# Altium integrated library xxxxxx001_RTC.IntLib: 24 symbols
Pins are listed as number, name and electrical type; pins without a type are passive.

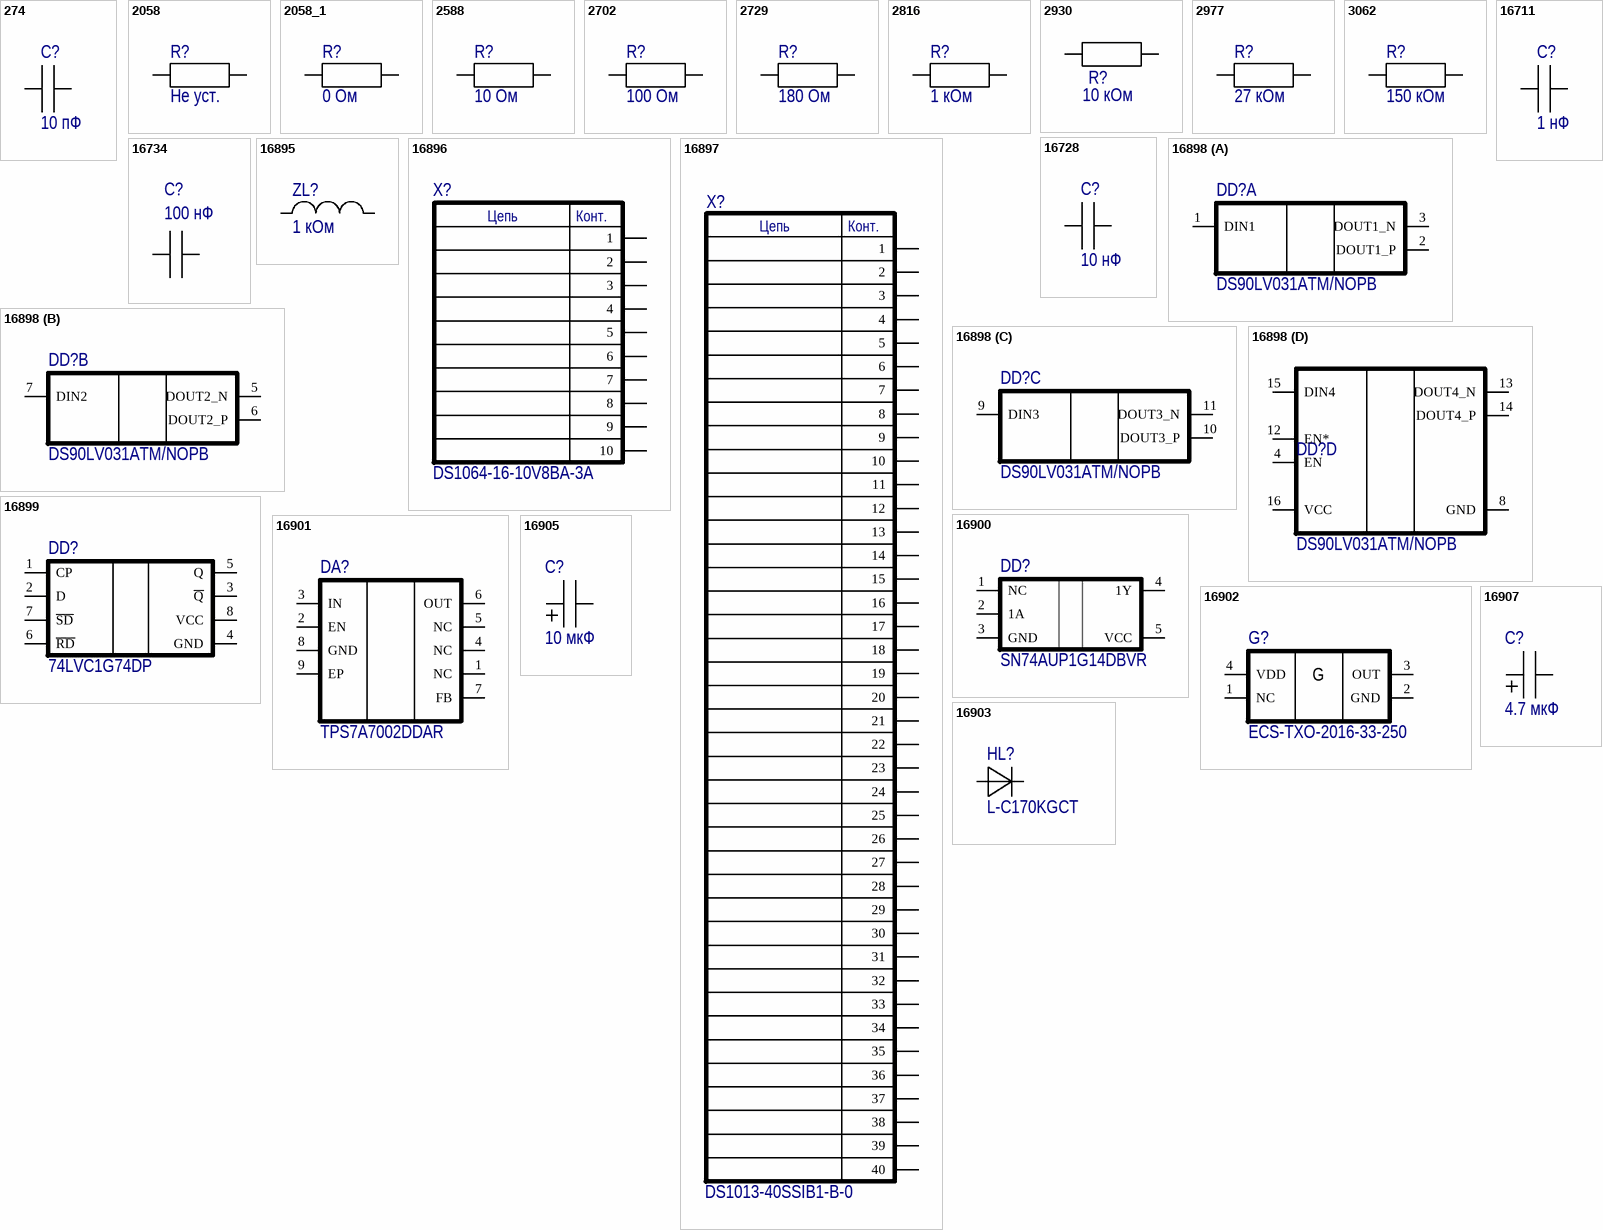
[diagram p0: symbols 274 to 16907]

## 274
designator C?, comment 10 пФ
Multilayer Ceramic Chip Capacitor; Manufacturer: Yageo; Part Number: CC0603GPNP09BN100; Number: 274; Type: Конденсатор; Ceramic Type: NP0; Voltage: 50 В; Tolerance: ±2%; ValueBOM: Multilayer Ceramic Chip Capacitor, 0603, NP0, 50V, ±2%, 10p; Package: 0603; Series: CC0603; ValueSCH: 10 пФ; HelpURL: http://www.yageo.com/e; ComponentLink1Description: Datasheet; ComponentLink1URL: ftp://51.15.50.217/yageo/capasitors/CC_series_(NP0).pdf#; Modify Date: 25.03.2009; Note: *
footprint CAPC160X080X080N
pins: 1, 2

## 2058
designator R?, comment Не уст.
General Purpose Chip Resistor; Manufacturer: Yageo; Part Number: RC0603JR-130R; Number: 2058; Power: 100 мВт; Tolerance: ±5%; ValueSCH: 0 Ом; ValueBOM: General Purpose Chip Resistor, 0603, ±5%, 0R; Type: Резистор; Package: 0603; Series: RC0603; HelpURL: http://www.yageo.com/e; ComponentLink1Description: Datasheet; ComponentLink1URL: ftp://51.15.50.217/yageo/resistors/RC0603_series.pdf#; Modify Date: 04.01.2009; Note: Не уст.
footprint RESC160X080X045N
pins: 1, 2

## 2058_1
designator R?, comment 0 Ом
General Purpose Chip Resistor; Manufacturer: Yageo; Part Number: RC0603JR-130R; Number: 2058; Power: 100 мВт; Tolerance: ±5%; ValueBOM: General Purpose Chip Resistor, 0603, ±5%, 0R; Type: Резистор; Package: 0603; Series: RC0603; ValueSCH: 0 Ом; HelpURL: http://www.yageo.com/e; ComponentLink1Description: Datasheet; ComponentLink1URL: ftp://51.15.50.217/yageo/resistors/RC0603_series.pdf#; Modify Date: 04.01.2009; Note: *
footprint RESC160X080X045N
pins: 1, 2

## 2588
designator R?, comment 10 Ом
General Purpose Chip Resistor; Manufacturer: Yageo; Part Number: RC0603FR-1310R; Number: 2588; Power: 100 мВт; Tolerance: ±1%; ValueBOM: General Purpose Chip Resistor, 0603, ±1%, 10R; Type: Резистор; Package: 0603; Series: RC0603; ValueSCH: 10 Ом; HelpURL: http://www.yageo.com/e; ComponentLink1Description: Datasheet; ComponentLink1URL: ftp://51.15.50.217/yageo/resistors/RC0603_series.pdf#; Modify Date: 04.01.2009; Note: *
footprint RESC160X080X045N
pins: 1, 2

## 2702
designator R?, comment 100 Ом
General Purpose Chip Resistor; Manufacturer: Yageo; Part Number: RC0603FR-13100R; Number: 2702; Power: 100 мВт; Tolerance: ±1%; ValueBOM: General Purpose Chip Resistor, 0603, ±1%, 100R; Type: Резистор; Package: 0603; Series: RC0603; ValueSCH: 100 Ом; HelpURL: http://www.yageo.com/e; ComponentLink1Description: Datasheet; ComponentLink1URL: ftp://51.15.50.217/yageo/resistors/RC0603_series.pdf#; Modify Date: 04.01.2009; Note: *
footprint RESC160X080X045N
pins: 1, 2

## 2729
designator R?, comment 180 Ом
General Purpose Chip Resistor; Manufacturer: Yageo; Part Number: RC0603FR-13180R; Number: 2729; Power: 100 мВт; Tolerance: ±1%; ValueBOM: General Purpose Chip Resistor, 0603, ±1%, 180R; Type: Резистор; Package: 0603; Series: RC0603; ValueSCH: 180 Ом; HelpURL: http://www.yageo.com/e; ComponentLink1Description: Datasheet; ComponentLink1URL: ftp://51.15.50.217/yageo/resistors/RC0603_series.pdf#; Modify Date: 04.01.2009; Note: *
footprint RESC160X080X045N
pins: 1, 2

## 2816
designator R?, comment 1 кОм
General Purpose Chip Resistor; Manufacturer: Yageo; Part Number: RC0603FR-131K; Number: 2816; Power: 100 мВт; Tolerance: ±1%; ValueBOM: General Purpose Chip Resistor, 0603, ±1%, 1K; Type: Резистор; Package: 0603; Series: RC0603; ValueSCH: 1 кОм; HelpURL: http://www.yageo.com/e; ComponentLink1Description: Datasheet; ComponentLink1URL: ftp://51.15.50.217/yageo/resistors/RC0603_series.pdf#; Modify Date: 04.01.2009; Note: *
footprint RESC160X080X045N
pins: 1, 2

## 2930
designator R?, comment 10 кОм
General Purpose Chip Resistor; Manufacturer: Yageo; Part Number: RC0603FR-1310K; Number: 2930; Power: 100 мВт; Tolerance: ±1%; ValueBOM: General Purpose Chip Resistor, 0603, ±1%, 10K; Type: Резистор; Package: 0603; Series: RC0603; ValueSCH: 10 кОм; HelpURL: http://www.yageo.com/e; ComponentLink1Description: Datasheet; ComponentLink1URL: ftp://51.15.50.217/yageo/resistors/RC0603_series.pdf#; Modify Date: 04.01.2009; Note: *
footprint RESC160X080X045N
pins: 1, 2

## 2977
designator R?, comment 27 кОм
General Purpose Chip Resistor; Manufacturer: Yageo; Part Number: RC0603FR-1327K; Number: 2977; Power: 100 мВт; Tolerance: ±1%; ValueBOM: General Purpose Chip Resistor, 0603, ±1%, 27K; Type: Резистор; Package: 0603; Series: RC0603; ValueSCH: 27 кОм; HelpURL: http://www.yageo.com/e; ComponentLink1Description: Datasheet; ComponentLink1URL: ftp://51.15.50.217/yageo/resistors/RC0603_series.pdf#; Modify Date: 04.01.2009; Note: *
footprint RESC160X080X045N
pins: 1, 2

## 3062
designator R?, comment 150 кОм
General Purpose Chip Resistor; Manufacturer: Yageo; Part Number: RC0603FR-13150K; Number: 3062; Power: 100 мВт; Tolerance: ±1%; ValueBOM: General Purpose Chip Resistor, 0603, ±1%, 150K; Type: Резистор; Package: 0603; Series: RC0603; ValueSCH: 150 кОм; HelpURL: http://www.yageo.com/e; ComponentLink1Description: Datasheet; ComponentLink1URL: ftp://51.15.50.217/yageo/resistors/RC0603_series.pdf#; Modify Date: 04.01.2009; Note: *
footprint RESC160X080X045N
pins: 1, 2

## 16711
designator C?, comment 1 нФ
Chip Monolithic Ceramic Capacitor; Manufacturer: Murata; Part Number: GRM188R71H102KA01D; Number: 16711; Type: Конденсатор; Ceramic Type: X7R; Voltage: 50 В; Tolerance: ±10%; ValueBOM: Chip Monolithic Ceramic Capacitor, 0603, X7R, 50V, ±10%, 1n; Package: 0603; Series: GRM188; ValueSCH: 1 нФ; ComponentLink1Description: Datasheet; ComponentLink1URL: ftp://51.15.50.217/murata/capacitors/chip_monolithic_ceramic_cap.pdf; Note: *
footprint CAPC160X080X080N
pins: 1, 2

## 16728
designator C?, comment 10 нФ
Chip Monolithic Ceramic Capacitor; Manufacturer: Murata; Part Number: GRM188R71E103KA01D; Number: 16728; Type: Конденсатор; Ceramic Type: X7R; Voltage: 25 В; Tolerance: ±10%; ValueBOM: Chip Monolithic Ceramic Capacitor, 0603, X7R, 25V, ±10%, 10n; Package: 0603; Series: GRM188; ValueSCH: 10 нФ; ComponentLink1Description: Datasheet; ComponentLink1URL: ftp://51.15.50.217/murata/capacitors/chip_monolithic_ceramic_cap.pdf; Note: *
footprint CAPC160X080X080N
pins: 1, 2

## 16734
designator C?, comment 100 нФ
Chip Monolithic Ceramic Capacitor; Manufacturer: Murata; Part Number: GRM188R71E104KA01D; Number: 16734; Type: Конденсатор; Ceramic Type: X7R; Voltage: 25 В; Tolerance: ±10%; ValueBOM: Chip Monolithic Ceramic Capacitor, 0603, X7R, 25V, ±10%, 100n; Package: 0603; Series: GRM188; ValueSCH: 100 нФ; ComponentLink1Description: Datasheet; ComponentLink1URL: ftp://51.15.50.217/murata/capacitors/chip_monolithic_ceramic_cap.pdf; Note: *
footprint CAPC160X080X080N
pins: 1, 2

## 16895
designator ZL?, comment 1 кОм
Chip Ferrite Bead; Manufacturer: Murata; Part Number: BLM15AG102SN1D; Number: 16895; Current: 300 мА; Tolerance: ±25%; ValueBOM: Chip Ferrite Bead, 0402, 300мА, ±25%, 0.65 Ом @ 100 MHz; Type: Индуктивность; Package: 0402; Series: BLM15AG; ValueSCH: 1 кОм; HelpURL: http://www.murata.com/; Modify Date: 20.06.2023; Note: *
footprint INDC100X050X050N
pins: 1, 2

## 16896
designator X?, comment DS1064-16-10V8BA-3A
1.27mm Box Header V/T Type H=7.1mm, 10 pin; Manufacturer: Connfly; Number: 16896; Type: Разъем; Series: DS1023-40; Part Number: DS1064-16-10V8BA-3A; ValueSCH: DS1064-16-10V8BA-3A; ValueBOM: 1.27mm Box Header V/T Type H=7.1mm, 10 pin; Modify Date: 21.06.2023; Note: *
footprint BHTH127x254_2X5
pins: 1, 2, 3, 4, 5, 6, 7, 8, 9, 10
text: Цепь; Конт.

## 16897
designator X?, comment DS1013-40SSIB1-B-0
2.54mm Box Header, Two Rows, 40 pins; Manufacturer: Connfly; Number: 16897; ValueBOM: 2.54mm Box Header, Dual Rows, 40 pins; Type: Разъем; Series: DS1013; Part Number: DS1013-40SSIB1-B-0; ValueSCH: DS1013-40SSIB1-B-0; Modify Date: 21.06.2023; Note: *
footprint BHTH254_2X20
pins: 1, 2, 3, 4, 5, 6, 7, 8, 9, 10, 11, 12, 13, 14, 15, 16, 17, 18, 19, 20, 21, 22, 23, 24, 25, 26, 27, 28, 29, 30, 31, 32, 33, 34, 35, 36, 37, 38, 39, 40
text: Цепь; Конт.

## 16898
designator DD?, comment DS90LV031ATM/NOPB
3-V LVDS Quad CMOS Differential Line Driver; Manufacturer: Texas Instruments; Number: 16898; Type: Микросхема цифровая; Part Number: DS90LV031ATM/NOPB; ValueSCH: DS90LV031ATM/NOPB; ValueBOM: 3-V LVDS Quad CMOS Differential Line Driver; Modify Date: 21.06.2023; Note: *
footprint SOIC127P600X175-16N
part A pins: 1 DIN1, 2 DOUT1_P, 3 DOUT1_N
part B pins: 5 DOUT2_N, 6 DOUT2_P, 7 DIN2
part C pins: 9 DIN3, 10 DOUT3_P, 11 DOUT3_N
part D pins: 4 EN, 8 GND, 12 EN*, 13 DOUT4_N, 14 DOUT4_P, 15 DIN4, 16 VCC

## 16899
designator DD?, comment 74LVC1G74DP
Single D-type flip-flop with set and reset; Manufacturer: Nexperia; Number: 16899; Type: Микросхема цифровая; Part Number: 74LVC1G74DP; ValueSCH: 74LVC1G74DP; ValueBOM: Single D-type flip-flop with set and reset; Modify Date: 21.06.2023; Mount: 1; Package: 135; Note: *
footprint TSOP65P400X110-8N
pins: 1 CP, 2 D, 3 ~{Q}, 4 GND, 5 Q, 6 ~{RD}, 7 ~{SD}, 8 VCC

## 16900
designator DD?, comment SN74AUP1G14DBVR
Low-Power Single Schmitt-Trigger Inverter; Manufacturer: Texas Instruments; Number: 16900; Type: Микросхема цифровая; Part Number: SN74AUP1G14DBVR; ValueSCH: SN74AUP1G14DBVR; ValueBOM: Low-Power Single Schmitt-Trigger Inverter; Modify Date: 21.06.2023; Mount: 1; Package: 101; Note: *
footprint TI_DBV0005A_SOT23_5 (SOT23, 5-Leads, Body 3.05x1.75mm, Pitch 0.95mm, IPC Low Density)
pins: 1 NC, 2 1A, 3 GND, 4 1Y, 5 VCC

## 16901
designator DA?, comment TPS7A7002DDAR
Very Low Input, Very Low Dropout 3-A Regulator With Enable; Manufacturer: Texas Instruments; Number: 16901; Type: Микросхема аналоговая; Part Number: TPS7A7002DDAR; ValueSCH: TPS7A7002DDAR; ValueBOM: Very Low Input, Very Low Dropout 3-A Regulator With Enable; Modify Date: 21.06.2023; Note: *
footprint SOIC127P600X170_HS-9N
pins: 1 NC, 2 EN, 3 IN, 4 NC, 5 NC, 6 OUT, 7 FB, 8 GND, 9 EP

## 16902
designator G?, comment ECS-TXO-2016-33-250
SMD CMOS TCXO, 25 МГц, ±2.5ppm; Manufacturer: ECS INC INTERNATIONAL; Number: 16902; ValueSCH: 25 МГц; Type: Генератор; Package: 68; Series: TXO-2016; Part Number: ECS-TXO-2016-33-250; ValueBOM: SMD CMOS TCXO, 25 МГц, ±2.5ppm; Modify Date: 21.06.2023; Mount: 1; Note1SCH: 25 МГц; Note2SCH: ±2.5ppm; Note: *
footprint OSCCC160X200X80-4N
pins: 1 NC, 2 GND, 3 OUT, 4 VDD
text: G

## 16903
designator HL?, comment L-C170KGCT
Светодиод поверхностного монтажа, зеленый, 0805; Manufacturer: Para Light; Number: 16903; Current: 30 мА; Intensity: 30 мКд; Color: Green; Type: Светодиод; Package: 0805; Part Number: L-C170KGCT; ValueSCH: L-C170KGCT; ValueBOM: Светодиод поверхностного монтажа, зеленый, 0805; Modify Date: 21.06.2023; Note: *
footprint LEDC200X125X075N_RED
pins: 1 "Anode", 2 "Cathode"

## 16905
designator C?, comment 10 мкФ
Solid Tantalum Surface Mount Capacitor; Manufacturer: AVX; Part Number: TAJA106M016RNJ; Number: 16905; Type: Конденсатор; Voltage: 16 В; Tolerance: ±20%; ValueBOM: Solid Tantalum Surface Mount Capacitor, CAP TNT A, 10u x 16V; Package: CAP TNT A; Series: TAJ; Ceramic Type: 10 мкФ; ValueSCH: 10 мкФ; HelpURL: http://www.avx.com/; ComponentLink1Description: Datasheet; ComponentLink1URL: ftp://51.15.50.217/avx/capacitors/TAJ.PDF; Modify Date: 19.02.2009; Note: *
footprint CAPMP3216X180N
pins: 1, 2

## 16907
designator C?, comment 4.7 мкФ
Solid Tantalum Surface Mount Capacitor; Manufacturer: AVX; Part Number: TAJA475M025RNJ; Number: 16907; Type: Конденсатор; Voltage: 25 В; Tolerance: ±20%; ValueBOM: Solid Tantalum Surface Mount Capacitor, CAP TNT A, 4.7u x 25V; Package: CAP TNT A; Series: TAJ; Ceramic Type: 4.7 мкФ; ValueSCH: 4.7 мкФ; HelpURL: http://www.avx.com/; ComponentLink1Description: Datasheet; ComponentLink1URL: ftp://51.15.50.217/avx/capacitors/TAJ.PDF; Modify Date: 20.02.2009; Note: *
footprint CAPMP3216X180N
pins: 1, 2